# EAGLE library part S29GL01GS (library 31813 Neutron Readout PCB)
S29GL01GS 56-pin TSOP
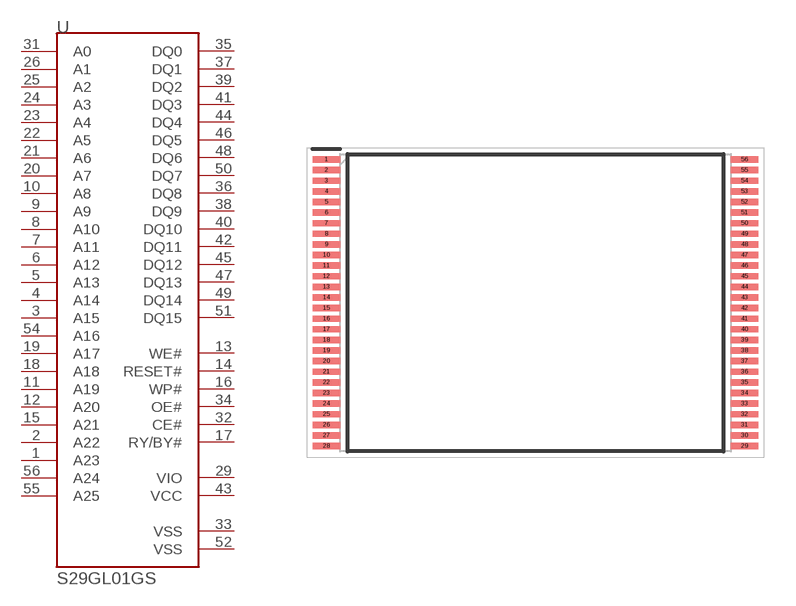
[diagram p15: symbol with the pads of TSOP56; footprint TSOP56]

Designator prefix U

## S29GL01GS  [TSOP56]
1  A23  in
2  A22  in
3  A15  in
4  A14  in
5  A13  in
6  A12  in
7  A11  in
8  A10  in
9  A9  in
10  A8  in
11  A19  in
12  A20  in
13  WE#  in
14  RESET#  in
15  A21  in
16  WP#  in
17  RY/BY#  out
18  A18  in
19  A17  in
20  A7  in
21  A6  in
22  A5  in
23  A4  in
24  A3  in
25  A2  in
26  A1  in
29  VIO  pwr
31  A0  in
32  CE#  in
33  VSS  pwr
34  OE#  in
35  DQ0
36  DQ8
37  DQ1
38  DQ9
39  DQ2
40  DQ10
41  DQ3
42  DQ11
43  VCC  pwr
44  DQ4
45  DQ12
46  DQ5
47  DQ13
48  DQ6
49  DQ14
50  DQ7
51  DQ15
52  VSS  pwr
54  A16  in
55  A25  in
56  A24  in

## Footprint TSOP56 (pad centres in mm)
56-Pin TSOP 14 x 20mm
smd 1.3 x 0.3: 1 -9.85,6.75; 2 -9.85,6.25; 3 -9.85,5.75; 4 -9.85,5.25; 5 -9.85,4.75; 6 -9.85,4.25; 7 -9.85,3.75; 8 -9.85,3.25; 9 -9.85,2.75; 10 -9.85,2.25; 11 -9.85,1.75; 12 -9.85,1.25; 13 -9.85,0.75; 14 -9.85,0.25; 15 -9.85,-0.25; 16 -9.85,-0.75; 17 -9.85,-1.25; 18 -9.85,-1.75; 19 -9.85,-2.25; 20 -9.85,-2.75; 21 -9.85,-3.25; 22 -9.85,-3.75; 23 -9.85,-4.25; 24 -9.85,-4.75; 25 -9.85,-5.25; 26 -9.85,-5.75; 27 -9.85,-6.25; 28 -9.85,-6.75; 29 9.85,-6.75; 30 9.85,-6.25; 31 9.85,-5.75; 32 9.85,-5.25; 33 9.85,-4.75; 34 9.85,-4.25; 35 9.85,-3.75; 36 9.85,-3.25; 37 9.85,-2.75; 38 9.85,-2.25; 39 9.85,-1.75; 40 9.85,-1.25; 41 9.85,-0.75; 42 9.85,-0.25; 43 9.85,0.25; 44 9.85,0.75; 45 9.85,1.25; 46 9.85,1.75; 47 9.85,2.25; 48 9.85,2.75; 49 9.85,3.25; 50 9.85,3.75; 51 9.85,4.25; 52 9.85,4.75; 53 9.85,5.25; 54 9.85,5.75; 55 9.85,6.25; 56 9.85,6.75